# EAGLE library part STM32F407IET6 (library STM32F407IET6)
STM32F407IET6, 32 bit ARM Cortex M4 MCU 168MHz 512 kB Flash, 192 + 4 kB RAM, 2xUSB CAN I2C 176-Pin LQFP Source: Datasheet <http://www.st.com/web/en/resource/technical/document/datasheet/DM00037051.pdf>
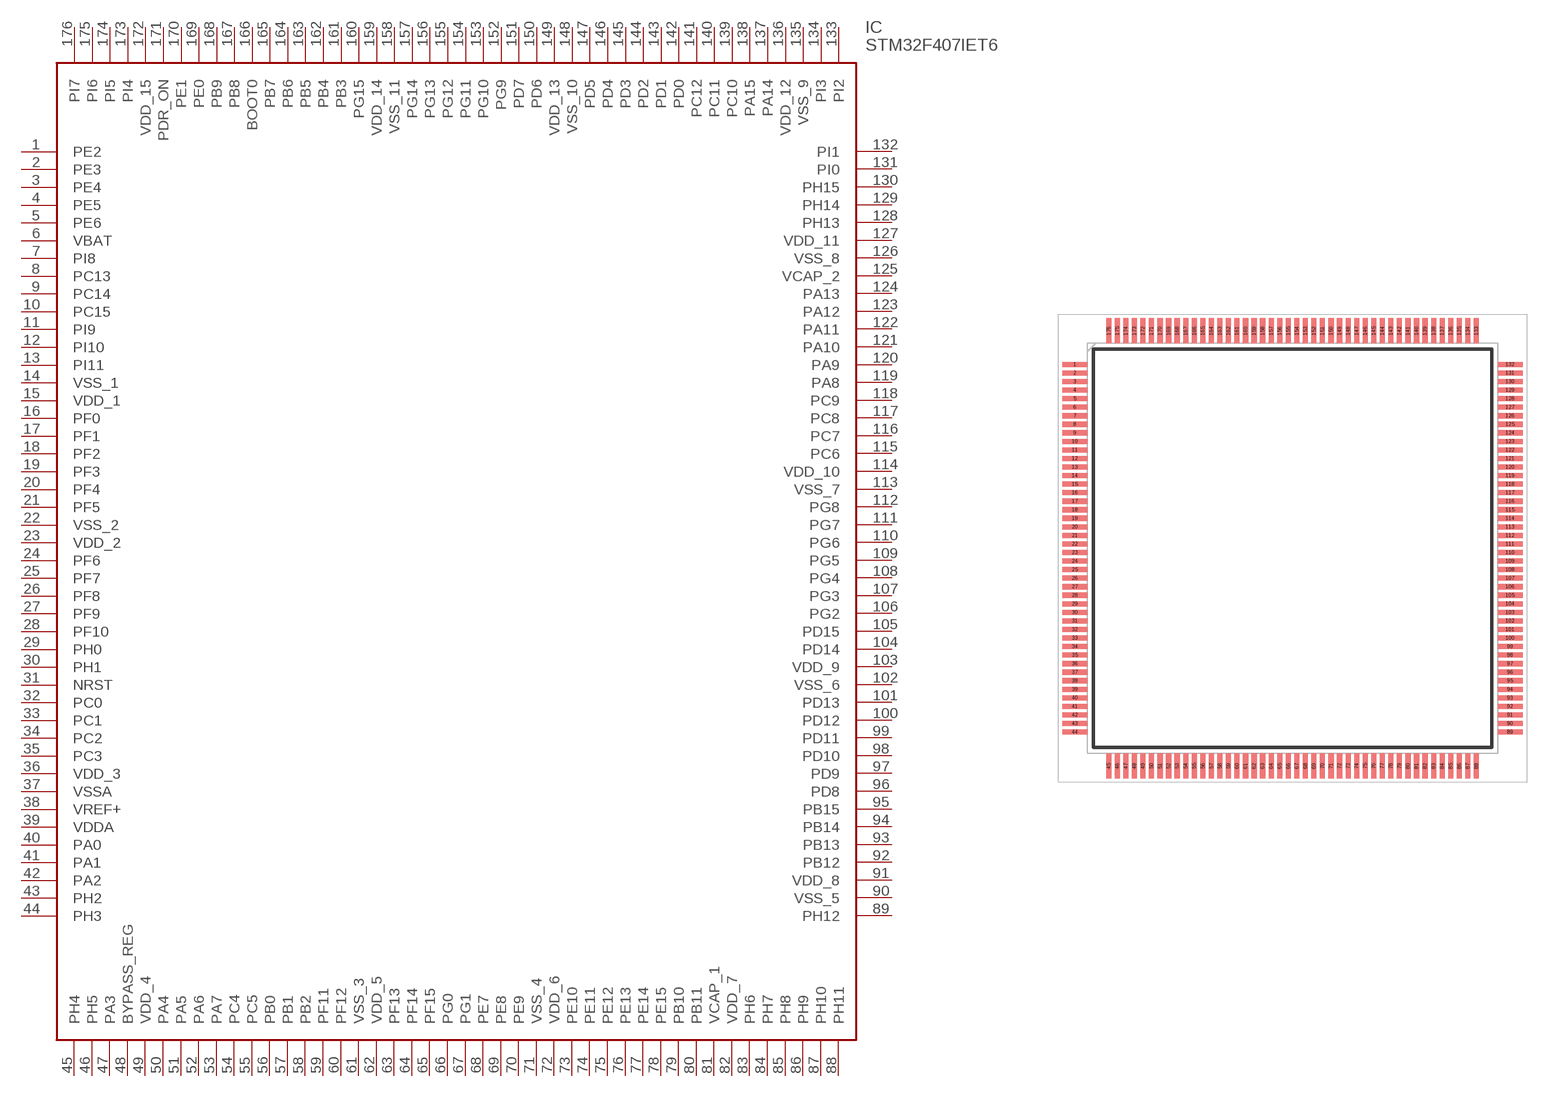
[diagram p0: symbol with the pads of QFP50P2600X2600X160-176N; footprint QFP50P2600X2600X160-176N]

Designator prefix IC

## STM32F407IET6 (Description: STM32F407IET6, 32 bit ARM Cortex M4 MCU 168MHz 512 kB Flash, 192 + 4 kB RAM, 2xUSB CAN I2C 176-Pin LQFP; Height: 1.6mm; Manufacturer_Name: STMicroelectronics; Manufacturer_Part_Number: STM32F407IET6; Mouser_Part_Number: 511-STM32F407IET6; Mouser_Price-Stock: https://www.mouser.co.uk/ProductDetail/STMicroelectronics/STM32F407IET6?qs=Z8%252BeY1k3TIJwlXfelATEbg%3D%3D)  [QFP50P2600X2600X160-176N]
1  PE2
2  PE3
3  PE4
4  PE5
5  PE6
6  VBAT
7  PI8
8  PC13
9  PC14
10  PC15
11  PI9
12  PI10
13  PI11
14  VSS_1  pwr
15  VDD_1  pwr
16  PF0
17  PF1
18  PF2
19  PF3
20  PF4
21  PF5
22  VSS_2  pwr
23  VDD_2  pwr
24  PF6
25  PF7
26  PF8
27  PF9
28  PF10
29  PH0
30  PH1
31  NRST  in
32  PC0
33  PC1
34  PC2
35  PC3
36  VDD_3  pwr
37  VSSA  pwr
38  VREF+  in
39  VDDA  pwr
40  PA0
41  PA1
42  PA2
43  PH2
44  PH3
45  PH4
46  PH5
47  PA3
48  BYPASS_REG
49  VDD_4  pwr
50  PA4
51  PA5
52  PA6
53  PA7
54  PC4
55  PC5
56  PB0
57  PB1
58  PB2
59  PF11
60  PF12
61  VSS_3  pwr
62  VDD_5  pwr
63  PF13
64  PF14
65  PF15
66  PG0
67  PG1
68  PE7
69  PE8
70  PE9
71  VSS_4  pwr
72  VDD_6  pwr
73  PE10
74  PE11
75  PE12
76  PE13
77  PE14
78  PE15
79  PB10
80  PB11
81  VCAP_1
82  VDD_7  pwr
83  PH6
84  PH7
85  PH8
86  PH9
87  PH10
88  PH11
89  PH12
90  VSS_5  pwr
91  VDD_8  pwr
92  PB12
93  PB13
94  PB14
95  PB15
96  PD8
97  PD9
98  PD10
99  PD11
100  PD12
101  PD13
102  VSS_6  pwr
103  VDD_9  pwr
104  PD14
105  PD15
106  PG2
107  PG3
108  PG4
109  PG5
110  PG6
111  PG7
112  PG8
113  VSS_7  pwr
114  VDD_10  pwr
115  PC6
116  PC7
117  PC8
118  PC9
119  PA8
120  PA9
121  PA10
122  PA11
123  PA12
124  PA13
125  VCAP_2
126  VSS_8  pwr
127  VDD_11  pwr
128  PH13
129  PH14
130  PH15
131  PI0
132  PI1
133  PI2
134  PI3
135  VSS_9  pwr
136  VDD_12  pwr
137  PA14
138  PA15
139  PC10
140  PC11
141  PC12
142  PD0
143  PD1
144  PD2
145  PD3
146  PD4
147  PD5
148  VSS_10  pwr
149  VDD_13  pwr
150  PD6
151  PD7
152  PG9
153  PG10
154  PG11
155  PG12
156  PG13
157  PG14
158  VSS_11  pwr
159  VDD_14  pwr
160  PG15
161  PB3
162  PB4
163  PB5
164  PB6
165  PB7
166  BOOT0
167  PB8
168  PB9
169  PE0
170  PE1
171  PDR_ON
172  VDD_15  pwr
173  PI4
174  PI5
175  PI6
176  PI7

## Footprint QFP50P2600X2600X160-176N (pad centres in mm)
LQFP176 24 x 24 x 1.4mm
smd 1.45 x 0.3: 1 -12.725,10.75; 2 -12.725,10.25; 3 -12.725,9.75; 4 -12.725,9.25; 5 -12.725,8.75; 6 -12.725,8.25; 7 -12.725,7.75; 8 -12.725,7.25; 9 -12.725,6.75; 10 -12.725,6.25; 11 -12.725,5.75; 12 -12.725,5.25; 13 -12.725,4.75; 14 -12.725,4.25; 15 -12.725,3.75; 16 -12.725,3.25; 17 -12.725,2.75; 18 -12.725,2.25; 19 -12.725,1.75; 20 -12.725,1.25; 21 -12.725,0.75; 22 -12.725,0.25; 23 -12.725,-0.25; 24 -12.725,-0.75; 25 -12.725,-1.25; 26 -12.725,-1.75; 27 -12.725,-2.25; 28 -12.725,-2.75; 29 -12.725,-3.25; 30 -12.725,-3.75; 31 -12.725,-4.25; 32 -12.725,-4.75; 33 -12.725,-5.25; 34 -12.725,-5.75; 35 -12.725,-6.25; 36 -12.725,-6.75; 37 -12.725,-7.25; 38 -12.725,-7.75; 39 -12.725,-8.25; 40 -12.725,-8.75; 41 -12.725,-9.25; 42 -12.725,-9.75; 43 -12.725,-10.25; 44 -12.725,-10.75; 89 12.725,-10.75; 90 12.725,-10.25; 91 12.725,-9.75; 92 12.725,-9.25; 93 12.725,-8.75; 94 12.725,-8.25; 95 12.725,-7.75; 96 12.725,-7.25; 97 12.725,-6.75; 98 12.725,-6.25; 99 12.725,-5.75; 100 12.725,-5.25; 101 12.725,-4.75; 102 12.725,-4.25; 103 12.725,-3.75; 104 12.725,-3.25; 105 12.725,-2.75; 106 12.725,-2.25; 107 12.725,-1.75; 108 12.725,-1.25; 109 12.725,-0.75; 110 12.725,-0.25; 111 12.725,0.25; 112 12.725,0.75; 113 12.725,1.25; 114 12.725,1.75; 115 12.725,2.25; 116 12.725,2.75; 117 12.725,3.25; 118 12.725,3.75; 119 12.725,4.25; 120 12.725,4.75; 121 12.725,5.25; 122 12.725,5.75; 123 12.725,6.25; 124 12.725,6.75; 125 12.725,7.25; 126 12.725,7.75; 127 12.725,8.25; 128 12.725,8.75; 129 12.725,9.25; 130 12.725,9.75; 131 12.725,10.25; 132 12.725,10.75
smd 0.3 x 1.45: 45 -10.75,-12.725; 46 -10.25,-12.725; 47 -9.75,-12.725; 48 -9.25,-12.725; 49 -8.75,-12.725; 50 -8.25,-12.725; 51 -7.75,-12.725; 52 -7.25,-12.725; 53 -6.75,-12.725; 54 -6.25,-12.725; 55 -5.75,-12.725; 56 -5.25,-12.725; 57 -4.75,-12.725; 58 -4.25,-12.725; 59 -3.75,-12.725; 60 -3.25,-12.725; 61 -2.75,-12.725; 62 -2.25,-12.725; 63 -1.75,-12.725; 64 -1.25,-12.725; 65 -0.75,-12.725; 66 -0.25,-12.725; 67 0.25,-12.725; 68 0.75,-12.725; 69 1.25,-12.725; 70 1.75,-12.725; 71 2.25,-12.725; 72 2.75,-12.725; 73 3.25,-12.725; 74 3.75,-12.725; 75 4.25,-12.725; 76 4.75,-12.725; 77 5.25,-12.725; 78 5.75,-12.725; 79 6.25,-12.725; 80 6.75,-12.725; 81 7.25,-12.725; 82 7.75,-12.725; 83 8.25,-12.725; 84 8.75,-12.725; 85 9.25,-12.725; 86 9.75,-12.725; 87 10.25,-12.725; 88 10.75,-12.725; 133 10.75,12.725; 134 10.25,12.725; 135 9.75,12.725; 136 9.25,12.725; 137 8.75,12.725; 138 8.25,12.725; 139 7.75,12.725; 140 7.25,12.725; 141 6.75,12.725; 142 6.25,12.725; 143 5.75,12.725; 144 5.25,12.725; 145 4.75,12.725; 146 4.25,12.725; 147 3.75,12.725; 148 3.25,12.725; 149 2.75,12.725; 150 2.25,12.725; 151 1.75,12.725; 152 1.25,12.725; 153 0.75,12.725; 154 0.25,12.725; 155 -0.25,12.725; 156 -0.75,12.725; 157 -1.25,12.725; 158 -1.75,12.725; 159 -2.25,12.725; 160 -2.75,12.725; 161 -3.25,12.725; 162 -3.75,12.725; 163 -4.25,12.725; 164 -4.75,12.725; 165 -5.25,12.725; 166 -5.75,12.725; 167 -6.25,12.725; 168 -6.75,12.725; 169 -7.25,12.725; 170 -7.75,12.725; 171 -8.25,12.725; 172 -8.75,12.725; 173 -9.25,12.725; 174 -9.75,12.725; 175 -10.25,12.725; 176 -10.75,12.725